# Altium schematic symbol library HCF4051BE.SchLib: 1 symbol
Pins are listed as number, name and electrical type; pins without a type are passive.

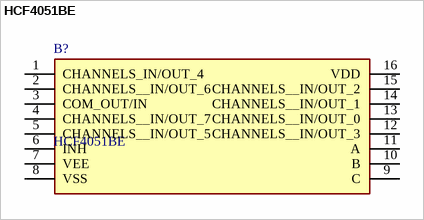
[diagram p0: symbol HCF4051BE]

## HCF4051BE
designator B?
Single 8-channel analog multiplexer/demultiplexer; Manufacturer_Name: STMicroelectronics; Geometry.Height: 5.1mm; Manufacturer_Part_Number: HCF4051BE; Mouser Part Number: *; Mouser Price/Stock: *; Arrow Part Number: *; Arrow Price/Stock: *; Datasheet Link: https://www.st.com/resource/en/datasheet/hcf4051.pdf
footprint DIP850W50P254L2000H510Q16N
pins: 1 CHANNELS_IN/OUT_4, 2 CHANNELS__IN/OUT_6, 3 COM_OUT/IN, 4 CHANNELS__IN/OUT_7, 5 CHANNELS__IN/OUT_5, 6 INH, 7 VEE, 8 VSS, 9 C, 10 B, 11 A, 12 CHANNELS__IN/OUT_3, 13 CHANNELS__IN/OUT_0, 14 CHANNELS__IN/OUT_1, 15 CHANNELS__IN/OUT_2, 16 VDD